# Altium footprint library JD1622(V3.0).PcbLib: 10 footprints
Each footprint in its own frame and in the unit in brackets; x right, y up, seen from the top. Pads: shape width x height; smd on the part's side, far side on the other; paste and mask are expansions set on the pad; w line width, h text height; cw(c..) or ccw(c..) is an arc to the next point about the centre after c.
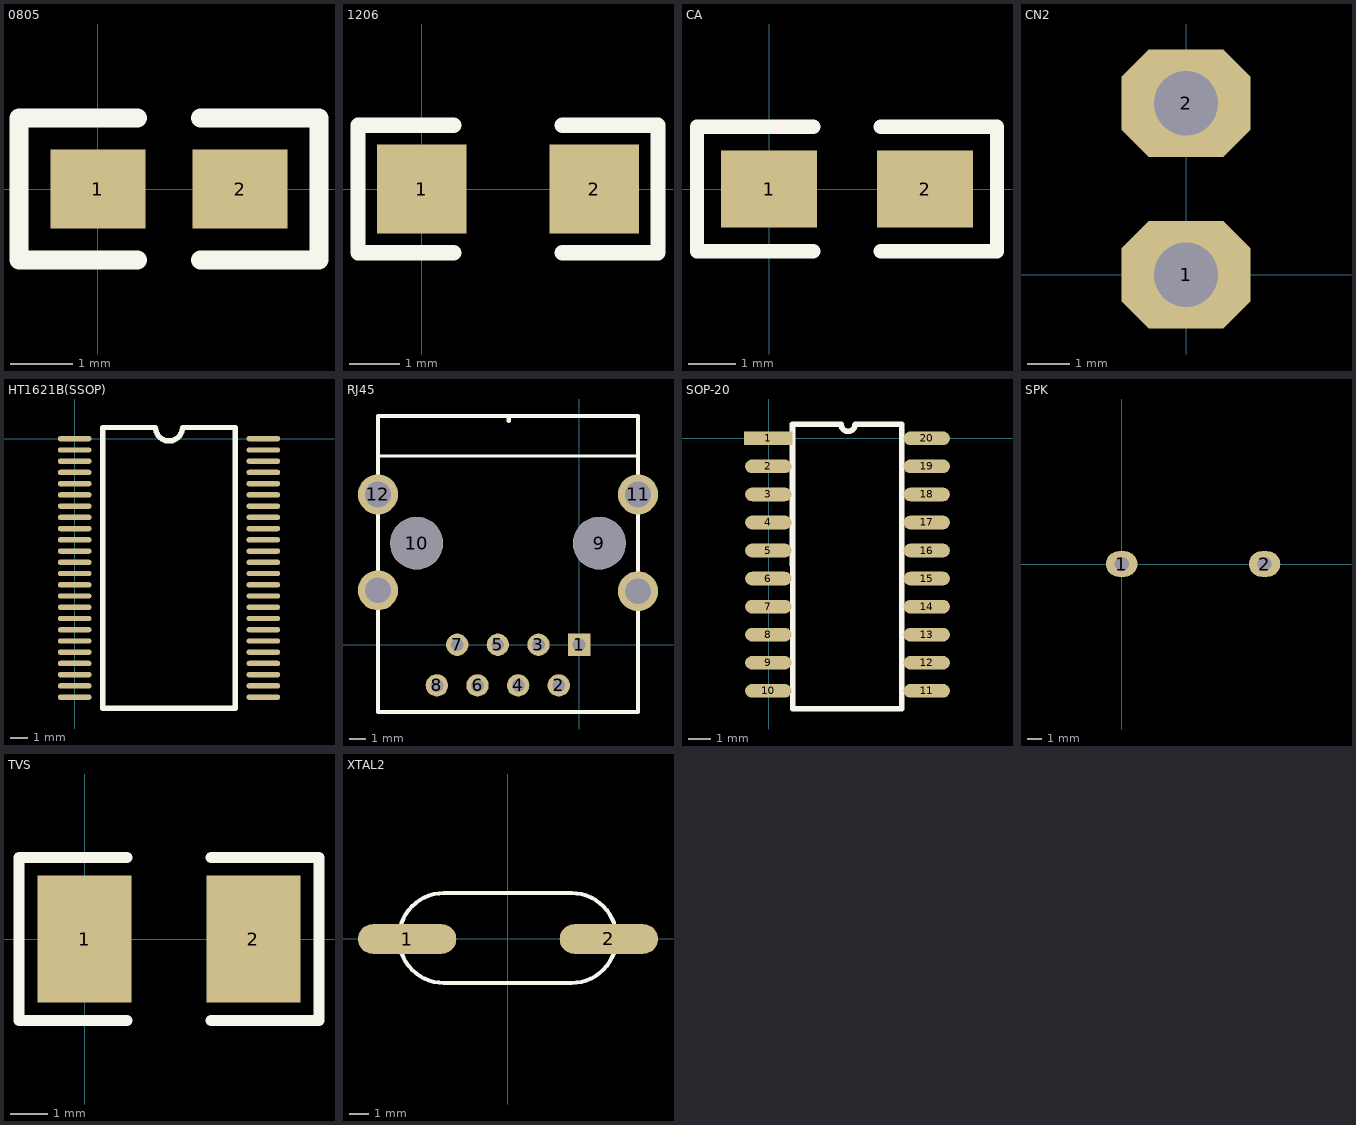
[diagram p0: the footprints below, top view; thin cyan lines are the x and y axes]

## 0805 [mil]
pads (2):
  rect 60x50 smd: 1(0,0) 2(90,0)
Top Overlay:
  lines w12: 25,-45 -50,-45 -50,45 25,45 ; 65,-45 140,-45 140,45 65,45

## 1206 [mil]
pads (2):
  rect 70x70 smd: 1(0,0) 2(135,0)
Top Overlay:
  lines w12: 25,-50 -50,-50 -50,50 25,50 ; 110,-50 185,-50 185,50 110,50

## CA [mil]
pads (2):
  rect 80x64 smd: 1(0,0) 2(130,0)
Top Overlay:
  lines w12: 37,-52 -60,-52 -60,52 37,52 ; 93,-52 190,-52 190,52 93,52

## CN2 [mm]
pads (2):
  oct 3x2.5 hole 1.5: 1(0,0) 2(0,4)

## HT1621B(SSOP) [mil]
pads (48):
  oval 75x12 smd: 1(0,0) 2(0,-25) 3(0,-50) 4(0,-75) 5(0,-100) 6(0,-125) 7(0,-150) 8(0,-175) 9(0,-200) 10(0,-225) 11(0,-250) 12(0,-275) 13(0,-300) 14(0,-325) 15(0,-350) 16(0,-375) 17(0,-400) 18(0,-425) 19(0,-450) 20(0,-475) 21(0,-500) 22(0,-525) 23(0,-550) 24(0,-575) 25(420,-575) 26(420,-550) 27(420,-525) 28(420,-500) 29(420,-475) 30(420,-450) 31(420,-425) 32(420,-400) 33(420,-375) 34(420,-350) 35(420,-325) 36(420,-300) 37(420,-275) 38(420,-250) 39(420,-225) 40(420,-200) 41(420,-175) 42(420,-150) 43(420,-125) 44(420,-100) 45(420,-75) 46(420,-50) 47(420,-25) 48(420,0)
Top Overlay:
  lines w12: 62.5,-600 62.5,25 180,25 ccw(c210,25) 240,25 357.5,25 357.5,-600 62.5,-600

## RJ45 [mil]
pads (14):
  rect 55x55 hole 31.5: 1(0,0)
  round 55 hole 31.5: 2(-50,-100) 3(-100,0) 4(-150,-100) 5(-200,0) 6(-250,-100) 7(-300,0) 8(-350,-100)
  round 130 hole 127.95 unplated: 9(50,250) 10(-400,250)
  round 98.42 hole 62.99: 11(145,370) 12(-495,370) ""(-495,133.78) ""(145,131.89)
Top Overlay:
  lines w8: -488.19,464.57 141.73,464.57
  lines w10: -495,-165.35 144.65,-165.35 145,-165 145,370 145,562.99 -495,562.99 -495,370 -495,-165 ; -173.23,551.18 -173.23,559.06
3D body: height 127.85, standoff -555.12, extent -490,-172.17 139.92,556.18

## SOP-20 [mm]
pads (20):
  rect 2.2x0.62 smd: 1(-0.025,0)
  oval 2.1x0.62 smd: 2(-0.025,-1.27) 3(-0.025,-2.54) 4(-0.025,-3.81) 5(-0.025,-5.08) 6(-0.025,-6.35) 7(-0.025,-7.62) 8(-0.025,-8.89) 9(-0.025,-10.16) 10(-0.025,-11.43) 11(7.143,-11.43) 12(7.143,-10.16) 13(7.143,-8.89) 14(7.143,-7.62) 15(7.143,-6.35) 16(7.143,-5.08) 17(7.143,-3.81) 18(7.143,-2.54) 19(7.143,-1.27) 20(7.143,0)
Top Overlay:
  lines w0.254: 1.077,-12.243 6.02,-12.243 6.02,0.635 ; 1.077,-12.192 1.067,0.635 ; 1.676,0.635 3.267,0.635 ccw(c3.584,0.635) 3.902,0.635 5.461,0.635 ; 1.778,0.635 1.067,0.635 ; 5.105,0.635 5.969,0.635 6.02,0.584 ; 1.067,0.347 1.067,0.347 ; 1.067,0.347 1.067,0.635

## SPK [mm]
pads (2):
  oval 2.2x1.8 hole 1: 1(0,0) 2(10,0)
Bottom Overlay:
  circle w0.508: c4.5,0 r10.5

## TVS [mil]
pads (2):
  rect 100x135 smd: 1(0,0) 2(180,0)
Top Overlay:
  lines w12: 45,-87 -70,-87 -70,87 45,87 ; 135,-87 250,-87 250,87 135,87

## XTAL2 [mm]
pads (2):
  oval 5x1.5 smd: 1(-5.12,0) 2(5.13,0)
Top Overlay:
  lines w0.203: -3.25,-2.236 cw(c-3.25,0.05) -3.25,2.336 3.23,2.336 cw(c3.23,0.05) 3.23,-2.236 -3.25,-2.236